# Altium footprint library arduinoUno.PcbLib: 27 footprints (part 1 of 2)
Each footprint in its own frame and in the unit in brackets; x right, y up, seen from the top. Pads: shape width x height; smd on the part's side, far side on the other; paste and mask are expansions set on the pad; w line width, h text height; cw(c..) or ccw(c..) is an arc to the next point about the centre after c.
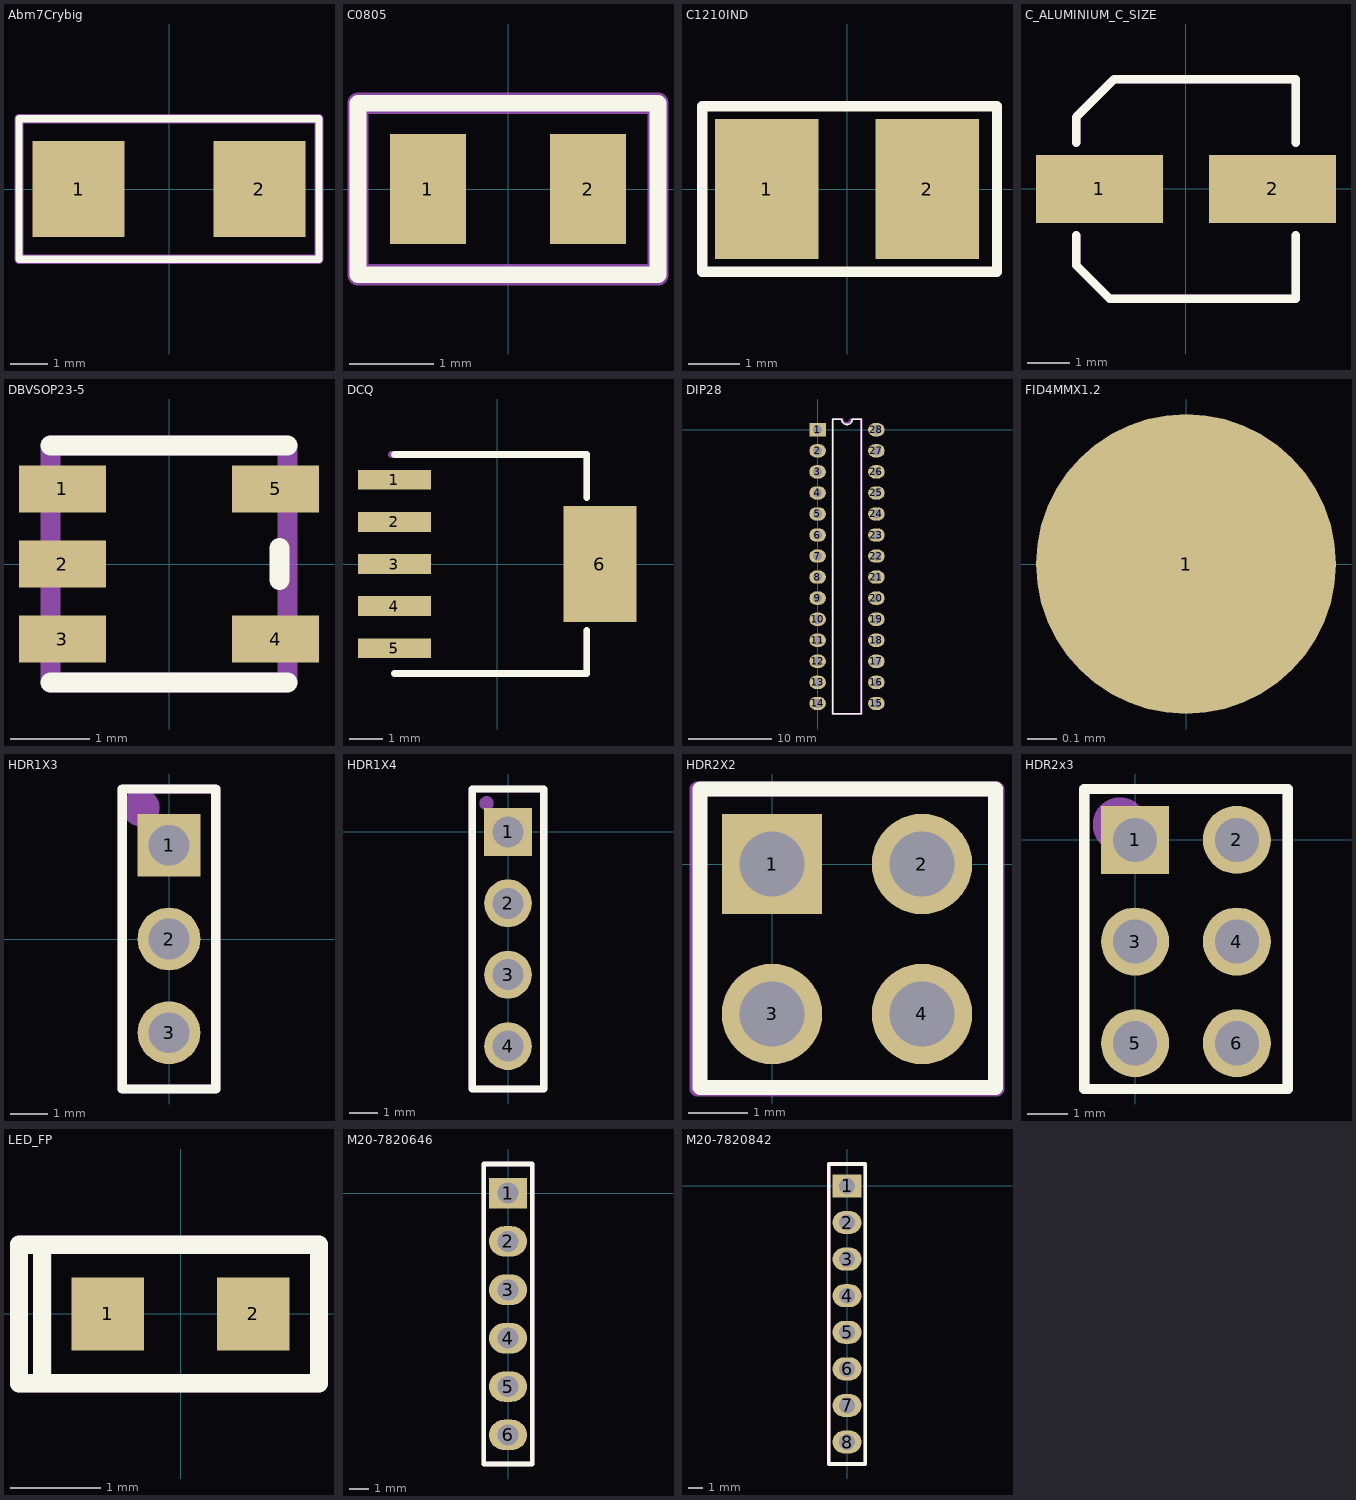
[diagram p0: the footprints below, top view; thin cyan lines are the x and y axes]

## 28_PIN_DIP_SOCKET [mm]
3D body "dil_socket.stp": height 2.85, standoff -4.52, extent -5.05,-17.75 5.05,17.75

## Abm7Crybig [mm]
pads (2):
  rect 2.5x2.6 smd: 1(-2.45,0) 2(2.45,0)
Top Overlay:
  lines w0.2: -4.064,-1.905 4.064,-1.905 4.064,1.905 -4.064,1.905 -4.064,-1.905
Mechanical 1:
  lines w0.254: -4.064,-1.905 -4.064,1.905 4.064,1.905 4.064,-1.905 -4.064,-1.905
  text ".Designator" at -3.246,-0.192 h0.76
3D body "ABM7.STEP": height 1.41, standoff 0.01, extent -2.997,-1.753 2.997,1.753

## C0805 [mm]
pads (2):
  rect 0.9x1.3 smd: 1(-0.95,0) 2(0.95,0)
Top Overlay:
  lines w0.2: -1.778,-1.016 -1.778,1.016 1.778,1.016 1.778,0.508 1.778,-0.508 1.778,-1.016 -1.778,-1.016
Mechanical 1:
  lines w0.254: -1.778,-1.016 1.778,-1.016 1.778,1.016 -1.778,1.016 -1.778,-1.016
  text ".Designator" at -0.946,-0.192 h0.76
3D body "GRM2165C1H471JA01J.stp": height 0.7, standoff 0, extent -1,-0.625 1,0.625

## C1210IND [mm]
pads (2):
  rect 2x2.7 smd: 1(-1.55,0) 2(1.55,0)
Top Overlay:
  lines w0.2: -2.8,-1.6 -2.8,1.6 2.9,1.6 2.9,-1.6 -2.8,-1.6
Mechanical 1:
  text ".Designator" at 0.154,-1.092 h0.76
3D body "L1210.step": height 2.51, standoff 0.01, extent -1.6,-1.3 1.6,1.2

## C_ALUMINIUM_C_SIZE [mm]
pads (2):
  rect 3x1.6 smd: 1(-2.05,0) 2(2.05,0)
Top Overlay:
  lines w0.203: -2.6,-1.1 -2.6,-1.8 -1.8,-2.6 0,-2.6 2.6,-2.6 2.6,-1.1 ; -2.6,1.1 -2.6,1.7 -1.7,2.6 0,2.6 2.6,2.6 2.6,1.1
Mechanical 1:
  lines w0.203: -2.6,-1.1 -2.6,-1.8 -1.8,-2.6 2.6,-2.6 2.6,-1.1 ; -2.6,1.1 -2.6,1.7 -1.7,2.6 2.6,2.6 2.6,1.1
  text ".Designator" at -1.946,-1.692 h0.76
3D body "User Library-capacitor size C.step": height 5.41, standoff -0.01, extent -2.95,-2.65 2.95,2.65

## DBVSOP23-5 [mm]
pads (5):
  rect 1.1x0.6 smd: 1(-1.35,0.95) 2(-1.35,0) 3(-1.35,-0.95) 4(1.35,-0.95) 5(1.35,0.95)
Top Overlay:
  lines w0.254: -1.5,-1.5 0,-1.5 1.5,-1.5 ; -1.5,1.5 0,1.5 1.5,1.5 ; 1.4,-0.2 1.4,0.2 1.4,0
Mechanical 1:
  lines w0.254: -1.5,-1.5 1.5,-1.5 1.5,1.5 -1.5,1.5 -1.5,-1.5
  text ".Designator" at -0.446,-0.692 h0.76
3D body "User Library-TPS79333DBVR.step": height 1.65, standoff 0.03, extent -1.513,-1.525 1.514,1.525

## DCQ [mm]
pads (6):
  rect 2.2x0.6 smd: 1(-3.1,2.54) 2(-3.1,1.27) 3(-3.1,0) 4(-3.1,-1.27) 5(-3.1,-2.54)
  rect 2.2x3.5 smd: 6(3.1,0)
Top Overlay:
  lines w0.203: -3.1,-3.3 2.7,-3.3 2.7,-2 ; -3.1,3.3 2.7,3.3 2.7,2
Mechanical 1:
  lines w0.203: -3.2,3.3 2.7,3.3 2.7,2 ; -3.1,-3.3 2.7,-3.3 2.7,-2
  text ".Designator" at -0.146,0.308 h0.76
3D body "User Library-TPS73701DCQ.step": height 1.8, standoff 0, extent -3.63,-3.275 3.63,3.275

## DIP28 [mm]
pads (28):
  rect 2x1.6 hole 1.1: 1(0,0)
  oval 2x1.6 hole 1.1: 2(0,-2.54) 3(0,-5.08) 4(0,-7.62) 5(0,-10.16) 6(0,-12.7) 7(0,-15.24) 8(0,-17.78) 9(0,-20.32) 10(0,-22.86) 11(0,-25.4) 12(0,-27.94) 13(0,-30.48) 14(0,-33.02) 15(7.096,-33.02) 16(7.096,-30.48) 17(7.096,-27.94) 18(7.096,-25.4) 19(7.096,-22.86) 20(7.096,-20.32) 21(7.096,-17.78) 22(7.096,-15.24) 23(7.096,-12.7) 24(7.096,-10.16) 25(7.096,-7.62) 26(7.096,-5.08) 27(7.096,-2.54) 28(7.096,0)
Top Overlay:
  lines w0.2: 1.835,-34.29 1.835,1.27 2.913,1.27 ccw(c3.548,1.27) 4.183,1.27 5.261,1.27 5.261,-34.29 1.835,-34.29
Mechanical 1:
  lines w0.203: 2.9,1.3 1.8,1.3 1.8,-34.3 5.3,-34.3 5.3,1.3 4.2,1.3
  lines w0.254: 2.99,1.3 ccw(c3.5,1.3) 4.01,1.3
  text ".Designator" at 3.554,-15.292 h0.76
3D body "28 pin dip.step": height 5.15, standoff -1.07, extent -0.337,-34.541 7.537,1.4

## FID4MMX1.2 [mil]
pads (1):
  round 40 smd paste-40 mask+40: 1(0,0)

## HDR1X3 [mm]
pads (3):
  rect 1.7x1.7 hole 1.1: 1(0,2.54)
  round 1.7 hole 1.1: 2(0,0) 3(0,-2.54)
Top Overlay:
  lines w0.254: -1.27,-4.064 1.27,-4.064 1.27,4.064 -1.27,4.064 -1.27,-4.064
Mechanical 1:
  circle w0.508: c-0.762,3.556 r0.254
  lines w0.254: -1.27,-4.064 1.27,-4.064 1.27,4.064 -1.27,4.064 -1.27,-4.064
  text ".Designator" at -0.762,3.048 h0.76
3D body "User Library-1x3 TH Pitch 2_54mm.STEP": height 9.21, standoff -3.49, extent -1.27,-3.81 1.27,3.81

## HDR1X4 [mm]
pads (4):
  rect 1.7x1.7 hole 1.1: 1(0,0)
  round 1.7 hole 1.1: 2(0,-2.54) 3(0,-5.08) 4(0,-7.62)
Top Overlay:
  lines w0.254: -1.27,-9.144 -1.27,1.524 1.27,1.524 1.27,-9.144 -1.27,-9.144
Mechanical 1:
  circle w0.254: c-0.762,1.016 r0.127
  lines w0.254: -1.27,-9.144 -1.27,1.524 1.27,1.524 1.27,-9.144 -1.27,-9.144
  text ".Designator" at -0.508,-1.524 h0.76
3D body "Header_2.54mm_1x4.STEP": height 8.81, standoff -2.99, extent -1.274,-8.89 1.266,1.27

## HDR2X2 [mm]
pads (4):
  rect 1.7x1.7 hole 1.1: 1(0,0)
  round 1.7 hole 1.1: 2(2.54,0) 3(0,-2.54) 4(2.54,-2.54)
Top Overlay:
  lines w0.254: -1.219,-3.785 3.785,-3.785 3.785,1.27 -1.219,1.27 -1.219,-3.785
Mechanical 1:
  lines w0.254: -1.27,-3.81 -1.27,1.27 3.81,1.27 3.81,-3.81 -1.27,-3.81
  text ".Designator" at 1.016,-1.27 h0.76
3D body "DS1021-2x2SF11.stp": height 8.6, standoff -3, extent -1.23,-3.81 3.77,1.27

## HDR2x3 [mm]
pads (6):
  rect 1.7x1.7 hole 1.1: 1(0,0)
  round 1.7 hole 1.1: 2(2.54,0) 3(0,-2.54) 4(2.54,-2.54) 5(0,-5.08) 6(2.54,-5.08)
Top Overlay:
  lines w0.254: -1.27,-6.223 -1.27,1.27 3.81,1.27 3.81,-6.223 -1.27,-6.223
Mechanical 1:
  circle w1.1: c-0.381,0.381 r0.127
  lines w0.254: -1.27,-6.223 3.81,-6.223 3.81,1.27 -1.27,1.27 -1.27,-6.223
  text ".Designator" at 1.397,-1.016 h0.76
3D body "DS1021-2x3SF11.stp": height 8.6, standoff -3, extent -1.23,-6.35 3.77,1.27

## LED_FP [mm]
pads (2):
  rect 0.8x0.8 smd: 1(-0.8,0) 2(0.8,0)
Top Overlay:
  lines w0.2: -1.778,-0.762 -1.778,0.762 ; -1.524,-0.762 -1.524,0.762 1.524,0.762 1.524,-0.762 -1.524,-0.762
  lines w0.203: -1.778,-0.762 -1.524,-0.762 ; -1.778,0.762 -1.524,0.762
Mechanical 1:
  lines w0.203: -1.524,-0.762 -1.524,0.762 -1.778,0.762 ; -1.778,0.762 1.524,0.762 1.524,-0.762 -1.778,-0.762 -1.778,0.762
  text ".Designator" at -0.762,-0.762 h0.76
3D body "User Library-LED SMD 0603 super red.step": height 0.65, standoff 0, extent -0.85,-0.4 0.85,0.4

## M20-7820646 [mm]
pads (6):
  rect 2x1.6 hole 1.1: 1(0,0)
  oval 2x1.6 hole 1.1: 2(0,-2.54) 3(0,-5.08) 4(0,-7.62) 5(0,-10.16) 6(0,-12.7)
Top Overlay:
  lines w0.254: -1.27,-14.224 1.27,-14.224 1.27,1.524 -1.27,1.524 -1.27,-14.224
Mechanical 1:
  lines w0.254: -1.27,-14.224 1.27,-14.224 1.27,1.524 -1.27,1.524 -1.27,-14.224
  text ".Designator" at -0.046,-6.592 h0.76
3D body "m20-7820646_asm.stp": height 8.51, standoff -2.99, extent -1.25,-14.17 1.25,1.47

## M20-7820842 [mm]
pads (8):
  rect 2x1.6 hole 1.1: 1(0,0)
  oval 2x1.6 hole 1.1: 2(0,-2.54) 3(0,-5.08) 4(0,-7.62) 5(0,-10.16) 6(0,-12.7) 7(0,-15.24) 8(0,-17.78)
Top Overlay:
  lines w0.254: -1.27,-19.304 -1.27,1.524 1.27,1.524 1.27,-19.304 -1.27,-19.304
Mechanical 1:
  lines w0.254: -1.27,-19.304 1.27,-19.304 1.27,1.524 -1.27,1.524 -1.27,-19.304
  text ".Designator" at 0.254,-7.112 h0.76
3D body "m20-7820842_asm.stp": height 8.51, standoff -2.99, extent -1.25,-19.25 1.25,1.47